# Altium footprint library Switch.PcbLib: 23 footprints (part 2 of 2)
Each footprint in its own frame and in the unit in brackets; x right, y up, seen from the top. Pads: shape width x height; smd on the part's side, far side on the other; paste and mask are expansions set on the pad; w line width, h text height; cw(c..) or ccw(c..) is an arc to the next point about the centre after c.
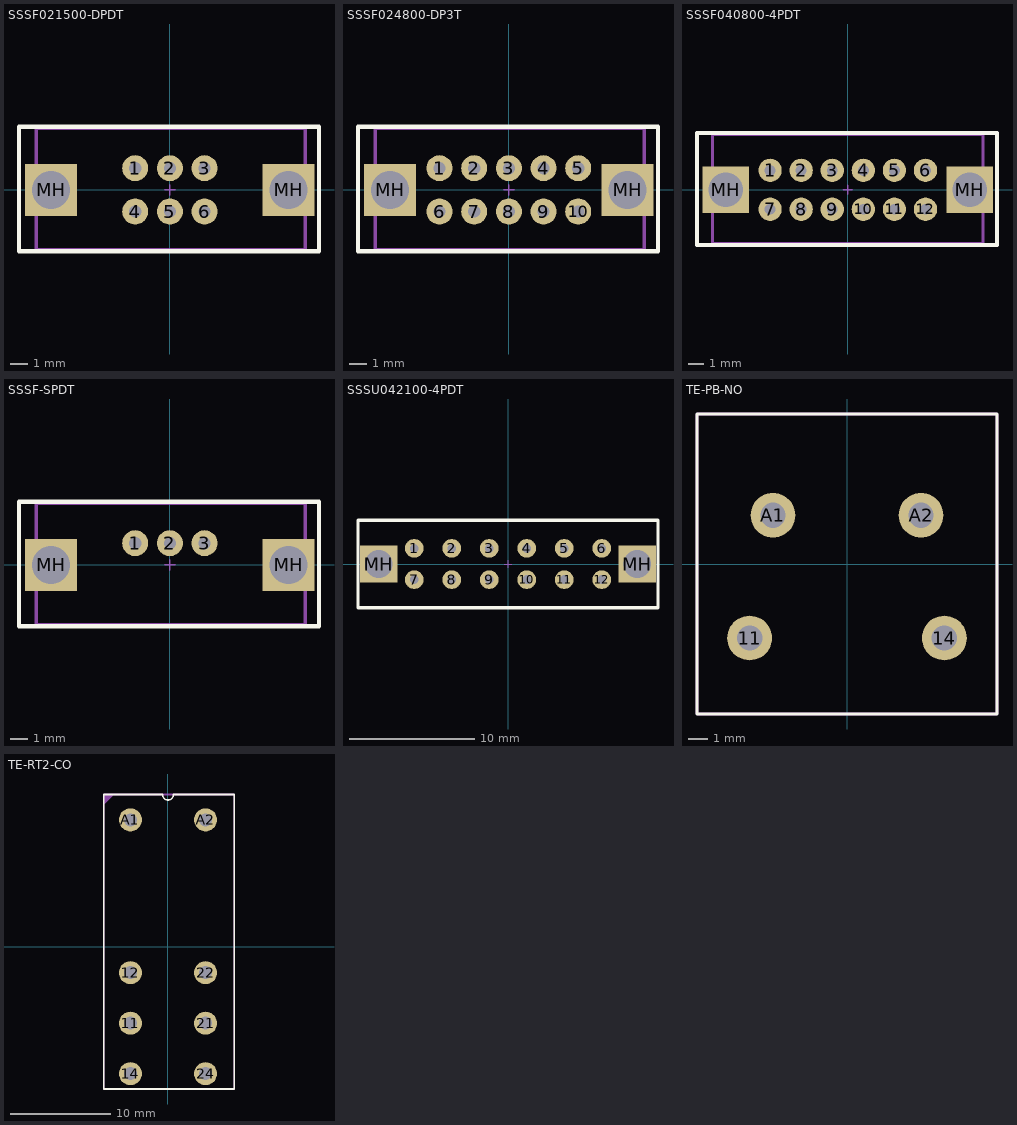
[diagram p1: the footprints below, top view; thin cyan lines are the x and y axes]

## SSSF021500-DPDT [mm]
pads (8):
  round 1.5 hole 0.7: 1(-2,1.25) 2(0,1.25) 3(2,1.25) 4(-2,-1.25) 5(0,-1.25) 6(2,-1.25)
  rect 3x3 hole 2.2: MH(-6.85,0) MH(6.85,0)
Top Overlay:
  lines w0.254: -8.7,-3.55 8.6,-3.55 8.6,3.65 -8.7,3.65 -8.7,-3.55
Top Assembly:
  lines w0.2: -7.7,-3.45 -7.7,3.55 7.8,3.55 7.8,-3.45 -7.7,-3.45
  text "'.Designator'" at -6.946,4.712 h1.52
Top Courtyard:
  lines w0.1: -0.3,0 0.3,0 ; 0,-0.3 0,0.3
  lines w0.2: -7.7,-3.45 7.8,-3.45 7.8,3.55 -7.7,3.55 -7.7,-3.45
3D body "SSSF021500.STEP": height 14.5, standoff -3.3, extent -7.76,-3.5 7.759,3.5

## SSSF024800-DP3T [mm]
pads (12):
  round 1.5 hole 0.7: 1(-4,1.25) 2(-2,1.25) 3(0,1.25) 4(2,1.25) 5(4,1.25) 6(-4,-1.25) 7(-2,-1.25) 8(0,-1.25) 9(2,-1.25) 10(4,-1.25)
  rect 3x3 hole 2.2: MH(-6.85,0) MH(6.85,0)
Top Overlay:
  lines w0.254: -8.7,-3.55 8.6,-3.55 8.6,3.65 -8.7,3.65 -8.7,-3.55
Top Assembly:
  lines w0.2: -7.7,-3.45 -7.7,3.55 7.8,3.55 7.8,-3.45 -7.7,-3.45
  text "'.Designator'" at -6.946,4.712 h1.52
Top Courtyard:
  lines w0.1: -0.3,0 0.3,0 ; 0,-0.3 0,0.3
  lines w0.2: -7.7,-3.45 7.8,-3.45 7.8,3.55 -7.7,3.55 -7.7,-3.45
3D body "SSSF024800.STEP": height 14.5, standoff -3.3, extent -7.755,-3.5 7.754,3.5

## SSSF040800-4PDT [mm]
pads (14):
  round 1.5 hole 0.7: 1(-5,1.25) 2(-3,1.25) 3(-1,1.25) 4(1,1.25) 5(3,1.25) 6(5,1.25) 7(-5,-1.25) 8(-3,-1.25) 9(-1,-1.25) 10(1,-1.25) 11(3,-1.25) 12(5,-1.25)
  rect 3x3 hole 2.2: MH(-7.85,0) MH(7.85,0)
Top Overlay:
  lines w0.254: -9.7,-3.55 9.6,-3.55 9.6,3.65 -9.7,3.65 -9.7,-3.55
Top Assembly:
  lines w0.2: -8.7,-3.45 -8.7,3.55 8.7,3.55 8.7,-3.45 -8.7,-3.45
  text "'.Designator'" at -7.946,4.712 h1.52
Top Courtyard:
  lines w0.1: -0.3,0 0.3,0 ; 0,-0.3 0,0.3
  lines w0.2: -8.7,-3.45 8.7,-3.45 8.7,3.55 -8.7,3.55 -8.7,-3.45
3D body "SSSF040800.STEP": height 14.5, standoff -3.3, extent -8.692,-3.45 8.692,3.55

## SSSF-SPDT [mm]
pads (5):
  round 1.5 hole 0.7: 1(-2,1.25) 2(0,1.25) 3(2,1.25)
  rect 3x3 hole 2.2: MH(-6.85,0) MH(6.85,0)
Top Overlay:
  lines w0.254: -8.7,-3.55 8.6,-3.55 8.6,3.65 -8.7,3.65 -8.7,-3.55
Top Assembly:
  lines w0.2: -7.7,-3.45 -7.7,3.55 7.8,3.55 7.8,-3.45 -7.7,-3.45
  text "'.Designator'" at -6.946,4.712 h1.52
Top Courtyard:
  lines w0.1: -0.3,0 0.3,0 ; 0,-0.3 0,0.3
  lines w0.2: -7.7,-3.45 7.8,-3.45 7.8,3.55 -7.7,3.55 -7.7,-3.45
3D body "SSSF011700.STEP": height 14.5, standoff -3.3, extent -7.759,-3.5 7.76,3.5

## SSSU042100-4PDT [mm]
pads (14):
  round 1.5 hole 0.7: 1(-7.5,1.25) 2(-4.5,1.25) 3(-1.5,1.25) 4(1.5,1.25) 5(4.5,1.25) 6(7.5,1.25) 7(-7.5,-1.25) 8(-4.5,-1.25) 9(-1.5,-1.25) 10(1.5,-1.25) 11(4.5,-1.25) 12(7.5,-1.25)
  rect 3x3 hole 2.2: MH(-10.35,0) MH(10.35,0)
Top Overlay:
  lines w0.254: -12,-3.5 12,-3.5 12,3.5 -12,3.5 -12,-3.5
Top Assembly:
  lines w0.1: -12,-3.5 -12,3.5 12,3.5 12,-3.5 -12,-3.5
  text "'.Designator'" at -11.746,4.662 h1.52
Top Courtyard:
  lines w0.1: -0.3,0 0.3,0 ; 0,-0.3 0,0.3 ; -12,-3.5 12,-3.5 12,3.5 -12,3.5 -12,-3.5
3D body "SSSU042100.STEP": height 17.5, standoff -3, extent -11.25,-3.5 11.249,3.5

## TE-PB-NO [mm]
pads (4):
  round 2.3 hole 1.3: 11(-5,-3.8) 14(5,-3.8) A1(-3.8,2.5) A2(3.8,2.5)
Top Overlay:
  lines w0.153: -7.7,-7.7 7.7,-7.7 7.7,7.7 -7.7,7.7 -7.7,-7.7
Top Assembly:
  lines w0.153: -7.7,-7.7 7.7,-7.7 7.7,7.7 -7.7,7.7 -7.7,-7.7
  text "'.Designator'" at -0.333,4.532 h0.8
Top Courtyard:
  lines w0.153: -7.7,-7.7 7.7,-7.7 7.7,7.7 -7.7,7.7 -7.7,-7.7
3D body "c-1415030-1-b1-3d.stp": height 20, standoff -3.7, extent -7.5,-7.5 7.5,7.5

## TE-RT2-CO [mm]
pads (8):
  round 2.3 hole 1.3: 11(-3.75,-7.63) 12(-3.75,-2.59) 14(-3.75,-12.67) 21(3.75,-7.63) 22(3.75,-2.59) 24(3.75,-12.67) A1(-3.75,12.67) A2(3.75,12.67)
Top Overlay:
  lines w0.153: -6.4,-14.2 -6.4,15.2 -0.55,15.2 ccw(c0,15.2) 0.55,15.2 6.6,15.2 6.6,-14.2 -6.4,-14.2
Top Assembly:
  region: -6.4,15.2 -6.4,14.2 -5.4,15.2
  lines w0.153: -6.4,-14.2 -6.4,15.2 6.6,15.2 6.6,-14.2 -6.4,-14.2
  text "'.Designator'" at -0.333,4.532 h0.8
Top Courtyard:
  lines w0.153: -6.4,-14.2 -6.4,15.2 6.6,15.2 6.6,-14.2 -6.4,-14.2
3D body "c-1-1419108-6-d-3d.stp": height 15.7, standoff -3.6, extent -6.25,-14 6.45,15